# EAGLE library part ADS8332 (library mullac)
Low Power16 bit ADC
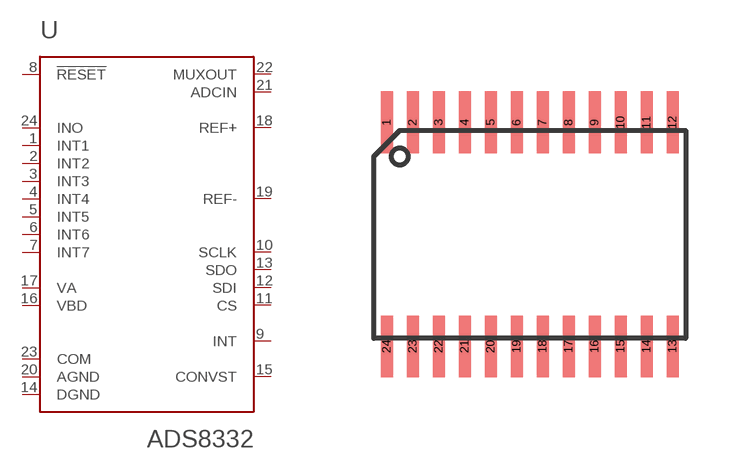
[diagram p23: symbol with the pads of TSSOP-24; footprint TSSOP-24]

Designator prefix -

## ADS8332TSSOP-24  [TSSOP-24]
1  INT1
2  INT2
3  INT3
4  INT4
5  INT5
6  INT6
7  INT7
8  !RESET
9  INT
10  SCLK
11  CS
12  SDI
13  SDO
14  DGND
15  CONVST
16  VBD
17  VA
18  REF+
19  REF-
20  AGND
21  ADCIN
22  MUXOUT
23  COM
24  INO

## Footprint TSSOP-24 (pad centres in mm)
smd 0.3 x 1.55: 1 -3.575,2.8; 2 -2.925,2.8; 3 -2.275,2.8; 4 -1.625,2.8; 5 -0.975,2.8; 6 -0.325,2.8; 7 0.325,2.8; 8 0.975,2.8; 9 1.625,2.8; 10 2.275,2.8; 11 2.925,2.8; 12 3.575,2.8; 13 3.575,-2.8; 14 2.925,-2.8; 15 2.275,-2.8; 16 1.625,-2.8; 17 0.975,-2.8; 18 0.325,-2.8; 19 -0.325,-2.8; 20 -0.975,-2.8; 21 -1.625,-2.8; 22 -2.275,-2.8; 23 -2.925,-2.8; 24 -3.575,-2.8